# EAGLE library part NORDIC-NRF52811-QCAA (library FlashPCB_ICs)
NRF52811 - BLUETOOTH 5.3 SOC SUPPORTING BLU Technical Specifications: RF Standard: 802.15.4, Bluetooth Protocol: Bluetooth v5.3, Thread Frequency of 2.4GHz Data Rate (Max): 2Mbps Power - Output: 4dBm Sensitivity: -104dBm Memory Size: 192kB Flash, 24kB RAM Serial Interfaces: ADC, PDM, PWM, SPI, UART GPIO: 17 Voltage-Supply: 1.7V ~ 3.6V Current - Receiving: 3.5mA ~ 11.2mA Current - Transmitting: 2.1mA ~ 15.4mA Operating Temperature: -40°C ~ 85°C Component Search: nRF52811 <[FLASHPCB URL]> Datasheet: nRF52811 <https://infocenter.nordicsemi.com/pdf/nRF52811_PS_v1.1.pdf>
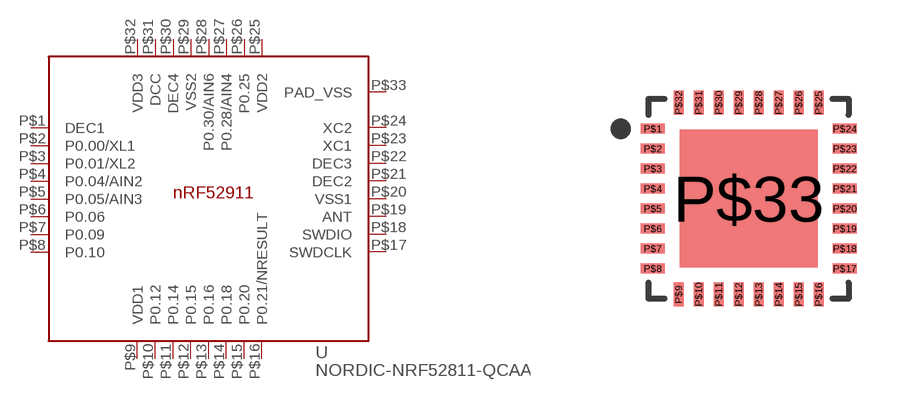
[diagram p66: symbol with the pads of 32-VQFN(5X5)-EXPOSED-PAD; footprint 32-VQFN(5X5)-EXPOSED-PAD]

Designator prefix U

## NORDIC-NRF52811-QCAA  [32-VQFN(5X5)-EXPOSED-PAD]
P$1  DEC1
P$2  P0.00/XL1
P$3  P0.01/XL2
P$4  P0.04/AIN2
P$5  P0.05/AIN3
P$6  P0.06
P$7  P0.09
P$8  P0.10
P$9  VDD1
P$10  P0.12
P$11  P0.14
P$12  P0.15
P$13  P0.16
P$14  P0.18
P$15  P0.20
P$16  P0.21/NRESULT
P$17  SWDCLK
P$18  SWDIO
P$19  ANT
P$20  VSS1
P$21  DEC2
P$22  DEC3
P$23  XC1
P$24  XC2
P$25  VDD2
P$26  P0.25
P$27  P0.28/AIN4
P$28  P0.30/AIN6
P$29  VSS2
P$30  DEC4
P$31  DCC
P$32  VDD3
P$33  PAD_VSS

## Footprint 32-VQFN(5X5)-EXPOSED-PAD (pad centres in mm)
smd 0.6 x 0.25: P$1 -2.4,1.75; P$2 -2.4,1.25; P$3 -2.4,0.75; P$4 -2.4,0.25; P$5 -2.4,-0.25; P$6 -2.4,-0.75; P$7 -2.4,-1.25; P$8 -2.4,-1.75; P$17 2.4,-1.75; P$18 2.4,-1.25; P$19 2.4,-0.75; P$20 2.4,-0.25; P$21 2.4,0.25; P$22 2.4,0.75; P$23 2.4,1.25; P$24 2.4,1.75
smd 0.25 x 0.6: P$9 -1.75,-2.4; P$10 -1.25,-2.4; P$11 -0.75,-2.4; P$12 -0.25,-2.4; P$13 0.25,-2.4; P$14 0.75,-2.4; P$15 1.25,-2.4; P$16 1.75,-2.4; P$25 1.75,2.4; P$26 1.25,2.4; P$27 0.75,2.4; P$28 0.25,2.4; P$29 -0.25,2.4; P$30 -0.75,2.4; P$31 -1.25,2.4; P$32 -1.75,2.4
smd 3.45 x 3.45: P$33 0,0